# Altium integrated library rotary encoder.IntLib: 1 symbol
Pins are listed as number, name and electrical type; pins without a type are passive.

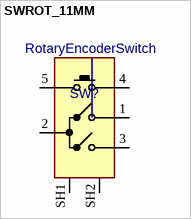
[diagram p0: symbol SWROT_11MM]

## SWROT_11MM
designator SW?, comment RotaryEncoderSwitch
SWITCH, ROTARY Encoder, 11mm Metal Shaft; MANF_PART#: RE111F-41B3N-15F-20P; MANF: Alpha; DESC: DESCRIPTION; ASSEMBLY: ASSEMBLY; PARAM: PARAM; PRICE: -; VALUE: RotaryEncoderSwitch
footprint SWROT_11MM (Alps Encoder+ sw)
pins: 1 A, 2 C, 3 B, 4 E, 5 D, SH1, SH2